# Altium schematic symbol library SCH - LOGIC - TI SN74LVC1G332.SchLib: 1 symbol
Pins are listed as number, name and electrical type; pins without a type are passive.

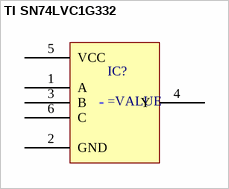
[diagram p0: symbol TI SN74LVC1G332]

## TI SN74LVC1G332
designator IC?
pins: 1 A, 2 GND, 3 B, 4 Y, 5 VCC, 6 C
1 alternate drawing of the same symbol